# Altium schematic symbol library EDR201A0500.SchLib: 1 symbol
Pins are listed as number, name and electrical type; pins without a type are passive.

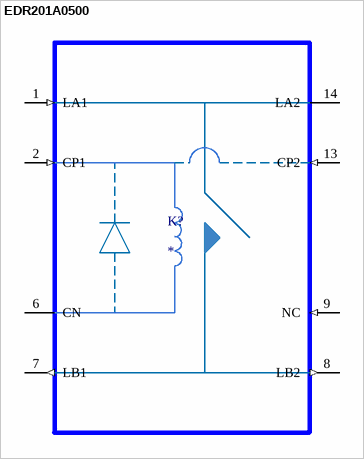
[diagram p0: symbol EDR201A0500]

## EDR201A0500
designator K?
Реле герконовое 5V / 1A,100V; MF: Fairchild Semiconductor; MP: MM74HC32N; SnapEDA_Link: https://www.snapeda.com/parts/MM74HC32N/Fairchild+Imaging/view-part/?ref=snap; Package: DIP-14 Fairchild Semiconductor; Value: *; Check_prices: https://www.snapeda.com/parts/MM74HC32N/Fairchild+Imaging/view-part/?ref=eda
footprint DIP14 (8pin DIP14)
pins: 1 LA1 (in), 2 CP1 (in), 6 CN, 7 LB1 (out), 8 LB2 (out), 9 NC (in), 13 CP2 (in), 14 LA2 (power)